# Altium schematic symbol library Schematic-Lib-ABahlmann-SMD.SchLib: 214 symbols (part 1 of 2)
Pins are listed as number, name and electrical type; pins without a type are passive.

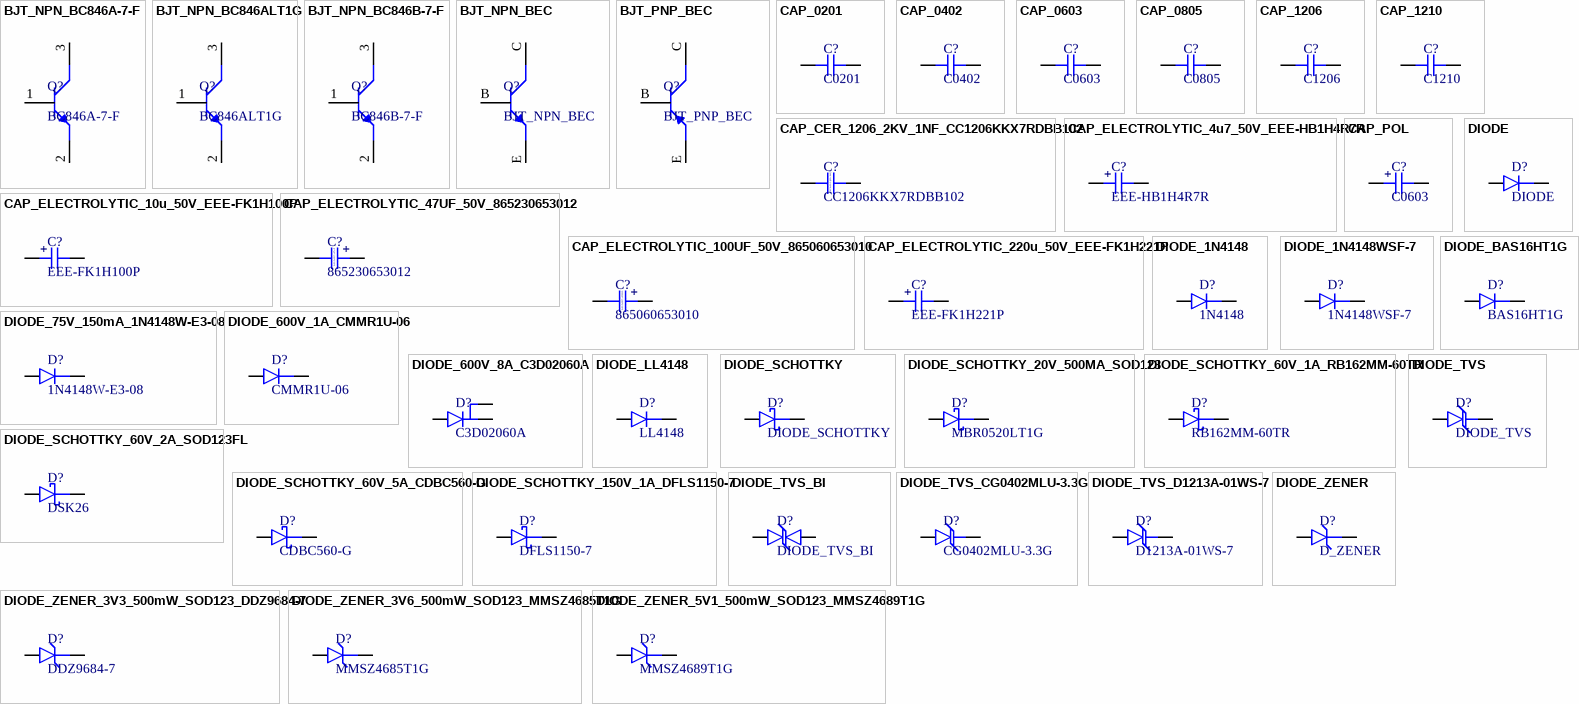
[diagram p0: symbols BJT_NPN_BC846A-7-F to DIODE_ZENER_5V1_500mW_SOD123_MMSZ4689T1G]

## BJT_NPN_BC846A-7-F
designator Q?, comment BC846A-7-F
Bipolar (BJT) Transistor NPN 65 V 100 mA 300MHz 300 mW Surface Mount SOT-23-3; ComponentLink1Description: Digikey; ComponentLink1URL: https://www.digikey.ca/en/products/detail/diodes-incorporated/BC846A-7-F/1934446; ComponentLink2Description: Datasheet; ComponentLink2URL: https://www.diodes.com/assets/Datasheets/BC846A-BC848C.pdf
pins: 1 B, 2 E, 3 C

## BJT_NPN_BC846ALT1G
designator Q?, comment BC846ALT1G
Bipolar (BJT) Transistor NPN 65 V 100 mA 100MHz 300 mW Surface Mount SOT-23-3 (TO-236); ComponentLink1Description: Digikey; ComponentLink1URL: https://www.digikey.ca/en/products/detail/onsemi/BC846ALT1G/918341; ComponentLink2Description: Datasheet; ComponentLink2URL: https://www.onsemi.com/pdf/datasheet/bc846alt1-d.pdf
footprint SOT-23_BC846ALT1G (Bipolar (BJT) Transistor NPN 65 V 100 mA 100MHz 300 mW Surface Mount SOT-23-3 (TO-236))
pins: 1 B, 2 E, 3 C

## BJT_NPN_BC846B-7-F
designator Q?, comment BC846B-7-F
Bipolar (BJT) Transistor NPN 65 V 100 mA 300MHz 300 mW Surface Mount SOT-23-3; ComponentLink1Description: Digikey; ComponentLink1URL: https://www.digikey.ca/en/products/detail/diodes-incorporated/BC846B-7-F/1099100; ComponentLink2Description: Datasheet; ComponentLink2URL: https://www.diodes.com/assets/Datasheets/ds11108.pdf
footprint SOT-23-3_BC846B-7-F (Bipolar (BJT) Transistor NPN 65 V 100 mA 300MHz 300 mW Surface Mount SOT-23-3)
pins: 1 B, 2 E, 3 C

## BJT_NPN_BEC
designator Q?
Transistor BJT NPN
pins: B, C, E

## BJT_PNP_BEC
designator Q?
Transistor BJT PNP
pins: B, C, E

## CAP_0201
designator C?, comment C0201
Capacitor SMD 0201; Manufacturer: *; Manufacturer Part Number: *; Distributor Link: *; LCSC: *; Rating: *
pins: 1, 2

## CAP_0402
designator C?, comment C0402
Capacitor SMD 0402; Manufacturer: *; Manufacturer Part Number: *; Distributor Link: *; LCSC: *; Rating: *
footprint CAP_0402_IPC
pins: 1, 2

## CAP_0603
designator C?, comment C0603
Capacitor SMD 0603; Manufacturer: *; Manufacturer Part Number: *; Distributor Link: *; LCSC: *; Rating: *
footprint CAP_0603
pins: 1, 2

## CAP_0805
designator C?, comment C0805
Capacitor SMD 0805; Manufacturer: *; Manufacturer Part Number: *; Distributor Link: *; LCSC: *; Rating: *
footprint CAP_0805
pins: 1, 2

## CAP_1206
designator C?, comment C1206
Capacitor SMD 1206; Manufacturer: *; Manufacturer Part Number: *; Distributor Link: *; LCSC: *; Rating: *
pins: 1, 2

## CAP_1210
designator C?, comment C1210
Capacitor SMD 1210; Manufacturer: *; Manufacturer Part Number: *; Distributor Link: *; LCSC: *; Rating: *
pins: 1, 2

## CAP_CER_1206_2KV_1NF_CC1206KKX7RDBB102
designator C?, comment CC1206KKX7RDBB102
1000 pF ±10% 2000V (2kV) Ceramic Capacitor X7R 1206 (3216 Metric); Manufacturer: Yageo; Manufacturer Part Number: CC1206KKX7RDBB102; Distributor Link: *; LCSC: *; Rating: *; ComponentLink1Description: Digikey; ComponentLink1URL: https://www.digikey.ca/en/products/detail/yageo/CC1206KKX7RDBB102/2833652; ComponentLink2Description: Datasheet; ComponentLink2URL: https://yageogroup.com/content/datasheet/asset/file/UPY-NP0X7R_HV_500V-TO-3KV
footprint MURATA_CAP_CER_1206
pins: 1, 2
text: 1206 1nF ±10% 2kV

## CAP_ELECTROLYTIC_4u7_50V_EEE-HB1H4R7R
designator C?, comment EEE-HB1H4R7R
4.7 µF 50 V Aluminum Electrolytic Capacitors Radial, Can - SMD 2000 Hrs @ 105°C; Manufacturer: *; Manufacturer Part Number: *; Distributor Link: *; LCSC: *; Rating: *; ComponentLink1Description: Digikey; ComponentLink1URL: https://www.digikey.ca/en/products/detail/panasonic-electronic-components/EEE-HB1H4R7R/817518?s=N4IgTCBcDaIKIIBICECMiAsAlA7FkAugL5A; ComponentLink2Description: Datasheet; ComponentLink2URL: https://industrial.panasonic.com/cdbs/www-data/pdf/RDE0000/ABA0000C1157.pdf
pins: 1, 2
text: +

## CAP_ELECTROLYTIC_10u_50V_EEE-FK1H100P
designator C?, comment EEE-FK1H100P
10 µF 50 V Aluminum Electrolytic Capacitors Radial, Can - SMD 2000 Hrs @ 105°C; Manufacturer: *; Manufacturer Part Number: *; Distributor Link: *; LCSC: *; Rating: *; ComponentLink1Description: Digikey; ComponentLink1URL: https://www.digikey.ca/en/products/detail/panasonic-electronic-components/EEE-FK1H100P/765976; ComponentLink2Description: Datasheet; ComponentLink2URL: https://industrial.panasonic.com/cdbs/www-data/pdf/RDE0000/ABA0000C1181.pdf
footprint CAP_ELECTROLYTIC_10u_50V_EEE-FK1H100P (10 µF 50 V Aluminum Electrolytic Capacitors Radial, Can - SMD 2000 Hrs @ 105°C)
pins: 1, 2
text: +

## CAP_ELECTROLYTIC_47UF_50V_865230653012
designator C?, comment 865230653012
47 µF 50 V Aluminum Electrolytic Capacitors Radial, Can - SMD 5000 Hrs @ 105°C; Manufacturer: Würth Elektronik; Manufacturer Part Number: 865230653012; Distributor Link: *; LCSC: *; Rating: *; ComponentLink1Description: Digikey; ComponentLink1URL: https://www.digikey.com/en/products/detail/w%C3%BCrth-elektronik/865230653012/5727872; ComponentLink2Description: Datasheet; ComponentLink2URL: https://www.we-online.com/components/products/datasheet/865230653012.pdf
footprint CAP_ELECTROLYTIC_47UF_50V_865230653012 (47 µF 50 V Aluminum Electrolytic Capacitors Radial, Can - SMD 5000 Hrs @ 105°C)
pins: 1, 2
text: 47uF ±20% 50V; +

## CAP_ELECTROLYTIC_100UF_50V_865060653010
designator C?, comment 865060653010
100 µF 50 V Aluminum Electrolytic Capacitors Radial, Can - SMD 5000 Hrs @ 105°C; Manufacturer: Würth Elektronik; Manufacturer Part Number: 865060653010; Distributor Link: *; LCSC: *; Rating: *; ComponentLink1Description: Digikey; ComponentLink1URL: https://www.digikey.ca/en/products/detail/w-rth-elektronik/865060653010/5728145?gclsrc=aw.ds&gad_source=1&gad_campaignid=17336435733&gbraid=0AAAAADrbLlhIcgpv2gvpz9yjGbse-w-JT&gclid=EAIaIQobChMIqdKd26m8lgMVPRmHAx1n_DMpEAQYByABEgKsbPD_BwE; ComponentLink2Description: Datasheet; ComponentLink2URL: https://www.we-online.com/components/products/datasheet/865060653010.pdf
footprint CAP_ELECTROLYTIC_100UF_50V_865060653010 (100 µF 50 V Aluminum Electrolytic Capacitors Radial, Can - SMD 5000 Hrs @ 105°C)
pins: 1, 2
text: 100uF ±20% 50V; +

## CAP_ELECTROLYTIC_220u_50V_EEE-FK1H221P
designator C?, comment EEE-FK1H221P
220 µF 50 V Aluminum Electrolytic Capacitors Radial, Can - SMD 2000 Hrs @ 105°C; Manufacturer: *; Manufacturer Part Number: *; Distributor Link: *; LCSC: *; Rating: *; ComponentLink1Description: Digikey; ComponentLink1URL: https://www.digikey.com/en/products/detail/panasonic-electronic-components/EEE-FK1H221P/765981; ComponentLink2Description: Datasheet; ComponentLink2URL: https://industrial.panasonic.com/cdbs/www-data/pdf/RDF0000/RDF0000C1264.pdf
footprint CAP_ELECTROLYTIC_220u_50V_EEE-FK1H221P (220 µF 50 V Aluminum Electrolytic Capacitors Radial, Can - SMD 2000 Hrs @ 105°C)
pins: 1, 2
text: +

## CAP_POL
designator C?, comment C0603
Polarized Capacitor; Manufacturer: *; Manufacturer Part Number: *; Distributor Link: *; LCSC: *; Rating: *
pins: 1, 2
text: +

## DIODE
designator D?
Diode SMD
pins: A, K

## DIODE_1N4148
designator D?, comment 1N4148
Diode 100 V 200mA Through Hole DO-35; ComponentLink1Description: Digikey; ComponentLink1URL: https://www.digikey.ca/en/products/detail/onsemi/1N4148/458603; ComponentLink2Description: Datasheet; ComponentLink2URL: https://www.onsemi.com/download/data-sheet/pdf/1n914-d.pdf
footprint DO-35_1N4148 (Diode 100 V 200mA Through Hole DO-35)
pins: A, K

## DIODE_1N4148WSF-7
designator D?, comment 1N4148WSF-7
Diode 100 V 250mA Surface Mount SOD-323F; ComponentLink1Description: Digikey; ComponentLink1URL: https://www.digikey.ca/en/products/detail/diodes-incorporated/1N4148WSF-7/4570628; ComponentLink2Description: Datasheet; ComponentLink2URL: https://www.diodes.com/assets/Datasheets/1N4148WSF.pdf
pins: A, K

## DIODE_75V_150mA_1N4148W-E3-08
designator D?, comment 1N4148W-E3-08
Diode 75 V 150mA Surface Mount SOD-123; ComponentLink1Description: Digikey; ComponentLink1URL: https://www.digikey.ca/en/products/detail/vishay-general-semiconductor-diodes-division/1N4148W-E3-08/3104162; ComponentLink2Description: Datasheet; ComponentLink2URL: https://www.vishay.com/docs/86356/1n4148w.pdf
footprint DIODE_75V_150mA_1N4148W-E3-08 (Diode 75 V 150mA Surface Mount SOD-123)
footprint DIODE_75V_150mA_1N4148W-E3-08_DNP (Diode 75 V 150mA Surface Mount SOD-123)
pins: A, K

## DIODE_600V_1A_CMMR1U-06
designator D?, comment CMMR1U-06
Diode 600 V 1A Surface Mount SOD-123F; ComponentLink1Description: Digikey; ComponentLink1URL: https://www.digikey.ca/en/products/detail/central-semiconductor-corp/CMMR1U-06-TR-PBFREE/4807502; ComponentLink2Description: Datasheet; ComponentLink2URL: https://my.centralsemi.com/datasheets/CMMR1U_SERIES.PDF
footprint DIODE_600V_1A_CMMR1U-06 (Diode 600 V 1A Surface Mount SOD-123F)
pins: 1, 2

## DIODE_600V_8A_C3D02060A
designator D?, comment C3D02060A
Diode 600 V 8A Through Hole TO-220-2; ComponentLink1Description: Digikey; ComponentLink1URL: https://www.digikey.ca/en/products/detail/wolfspeed-inc/C3D02060A/2080270; ComponentLink2Description: Datasheet; ComponentLink2URL: https://assets.wolfspeed.com/uploads/2023/05/Wolfspeed_C3D02060A_data_sheet.pdf
footprint DIODE_600V_8A_C3D02060A (Diode 600 V 8A Through Hole TO-220-2)
pins: 1, 2, 3

## DIODE_BAS16HT1G
designator D?, comment BAS16HT1G
Diode 100 V 200mA Surface Mount SOD-323; ComponentLink1Description: Digikey; ComponentLink1URL: https://www.digikey.ca/en/products/detail/onsemi/BAS16HT1G/918301; ComponentLink2Description: Datasheet; ComponentLink2URL: https://www.onsemi.com/pub/Collateral/BAS16HT1-D.PDF
pins: A, K

## DIODE_LL4148
designator D?, comment LL4148
Diode 100 V 200mA Surface Mount SOD-80; ComponentLink1Description: Digikey; ComponentLink1URL: https://www.digikey.ca/en/products/detail/onsemi/LL4148/1923046; ComponentLink2Description: Datasheet; ComponentLink2URL: https://www.onsemi.com/pub/Collateral/LL4148-D.PDF
pins: A, K

## DIODE_SCHOTTKY
designator D?
Diode Schottky SMD
pins: A, K

## DIODE_SCHOTTKY_20V_500MA_SOD123
designator D?, comment MBR0520LT1G
Diode 20 V 500mA Surface Mount SOD-123; ComponentLink1Description: Digikey; ComponentLink1URL: https://www.digikey.ca/en/products/detail/onsemi/MBR0520LT1G/918574; ComponentLink2Description: Datasheet; ComponentLink2URL: https://www.onsemi.com/pdf/datasheet/mbr0520lt1-d.pdf; ComponentLink3Description: LCSC; ComponentLink3URL: https://www.lcsc.com/product-detail/C23848.html?s_z=n_MBR0520LT1G
footprint SOD_123
pins: A, K

## DIODE_SCHOTTKY_60V_1A_RB162MM-60TR
designator D?, comment RB162MM-60TR
Diode 60 V 1A Surface Mount PMDU; ComponentLink1Description: Digikey; ComponentLink1URL: https://www.digikey.ca/en/products/detail/rohm-semiconductor/RB162MM-60TR/5001883; ComponentLink2Description: Datasheet; ComponentLink2URL: https://www.rohm.com/datasheet?p=RB162MM-60&dist=Digi-Key&media=referral&source=digi-key.com&campaign=Digi-Key
footprint DIODE_SCHOTTKY_60V_1A_RB162MM-60TR (Diode 60 V 1A Surface Mount PMDU)
pins: A, K

## DIODE_SCHOTTKY_60V_2A_SOD123FL
designator D?, comment DSK26
Diode 60 V 2A Surface Mount SOD-123FL; ComponentLink1Description: Digikey; ComponentLink1URL: https://www.digikey.com/en/products/detail/nextgen-components/DSK26/15905844; ComponentLink2Description: Datasheet (Digikey); ComponentLink2URL: https://mm.digikey.com/Volume0/opasdata/d220001/medias/docus/6537/3372_DSK26W0000S060.pdf; ComponentLink3Description: LCSC; ComponentLink3URL: https://jlcpcb.com/partdetail/MDD_Microdiode_Semiconductor-DSK26/C50553; ComponentLink4Description: Datasheet (LCSC); ComponentLink4URL: https://jlcpcb.com/api/file/downloadByFileSystemAccessId/8586178991341883392
footprint SOD_123FL
pins: A, K

## DIODE_SCHOTTKY_60V_5A_CDBC560-G
designator D?, comment CDBC560-G
Diode 60 V 5A Surface Mount DO-214AB (SMC); ComponentLink1Description: Digikey; ComponentLink1URL: https://www.digikey.ca/en/products/detail/comchip-technology/CDBC560-G/1558970; ComponentLink2Description: Datasheet; ComponentLink2URL: https://mm.digikey.com/Volume0/opasdata/d220001/medias/docus/2437/CDBC520-G%20Thru%20CDBC5100-G.pdf
footprint DO-214AB_CDBC560-G (Diode 60 V 5A Surface Mount DO-214AB (SMC))
pins: A, K

## DIODE_SCHOTTKY_150V_1A_DFLS1150-7
designator D?, comment DFLS1150-7
Diode 150 V 1A Surface Mount PowerDI™ 123; ComponentLink1Description: Digkey; ComponentLink1URL: https://www.digikey.ca/en/products/detail/diodes-incorporated/DFLS1150-7/765613; ComponentLink2Description: Datasheet; ComponentLink2URL: https://www.diodes.com/assets/Datasheets/DFLS1150.pdf
footprint DIODE_SCHOTTKY_150V_1A_DFLS1150-7 (Diode 150 V 1A Surface Mount PowerDI™ 123)
pins: A, K

## DIODE_TVS
designator D?
Diode TVS SMD
pins: A, K

## DIODE_TVS_BI
designator D?
Diode TVS Bidirectional SMD
pins: A, K

## DIODE_TVS_CG0402MLU-3.3G
designator D?, comment CG0402MLU-3.3G
Varistor 1 Circuit Surface Mount, MLCV 0402 (1005 Metric); ComponentLink1Description: Digikey; ComponentLink1URL: https://www.digikey.sk/en/products/detail/bourns-inc/CG0402MLU-3-3G/1788369; ComponentLink2Description: Datasheet; ComponentLink2URL: https://www.bourns.com/docs/Product-Datasheets/MLU.pdf
footprint DIODE_TVS_CG0402MLU-3.3G (Varistor 1 Circuit Surface Mount, MLCV 0402 (1005 Metric))
pins: A, K

## DIODE_TVS_D1213A-01WS-7
designator D?, comment D1213A-01WS-7
10V (Typ) Clamp 5A (8/20µs) Ipp Tvs Diode Surface Mount SOD-323; ComponentLink1Description: Digikey; ComponentLink1URL: https://www.digikey.ca/en/products/detail/diodes-incorporated/D1213A-01WS-7/3340446; ComponentLink2Description: Datasheet; ComponentLink2URL: https://www.diodes.com/assets/Datasheets/D1213A-01WS.pdf
footprint SOD_323_D1213A-01WS-7 (10V (Typ) Clamp 5A (8/20µs) Ipp Tvs Diode Surface Mount SOD-323)
pins: A, K

## DIODE_ZENER
designator D?, comment D_ZENER
Diode Zener SMD
pins: A, K

## DIODE_ZENER_3V3_500mW_SOD123_DDZ9684-7
designator D?, comment DDZ9684-7
Zener Diode 3.3 V 500 mW ±5% Surface Mount SOD-123; ComponentLink1Description: Digikey; ComponentLink1URL: https://www.digikey.ca/en/products/detail/diodes-incorporated/DDZ9684-7/1934818; ComponentLink2Description: Datasheet; ComponentLink2URL: https://www.diodes.com/assets/Datasheets/ds30410.pdf
pins: A, K

## DIODE_ZENER_3V6_500mW_SOD123_MMSZ4685T1G
designator D?, comment MMSZ4685T1G
Zener Diode 3.6 V 500 mW ±5% Surface Mount SOD-123; ComponentLink1Description: Digikey; ComponentLink1URL: https://www.digikey.ca/en/products/detail/onsemi/MMSZ4685T1G/919719; ComponentLink2Description: Datasheet (Digikey); ComponentLink2URL: https://www.onsemi.com/pdf/datasheet/mmsz4678t1-d.pdf; ComponentLink3Description: LCSC; ComponentLink3URL: https://www.lcsc.com/product-detail/C66886.html?s_z=n_MMSZ4685T1G; ComponentLink4Description: Datasheet (LCSC); ComponentLink4URL: https://www.lcsc.com/datasheet/C66886.pdf
footprint SOD_123
pins: A, K

## DIODE_ZENER_5V1_500mW_SOD123_MMSZ4689T1G
designator D?, comment MMSZ4689T1G
Zener Diode 5.1 V 500 mW ±5% Surface Mount SOD-123; ComponentLink1Description: Digikey; ComponentLink1URL: https://www.digikey.ca/en/products/detail/onsemi/MMSZ4689T1G/919723; ComponentLink2Description: Datasheet (Digikey); ComponentLink2URL: https://www.onsemi.com/pdf/datasheet/mmsz4678t1-d.pdf; ComponentLink3Description: LCSC; ComponentLink3URL: https://jlcpcb.com/partdetail/onsemi-MMSZ4689T1G/C236187; ComponentLink4Description: Datasheet (LCSC); ComponentLink4URL: https://jlcpcb.com/api/file/downloadByFileSystemAccessId/8588884732348547072
footprint SOD_123
pins: A, K

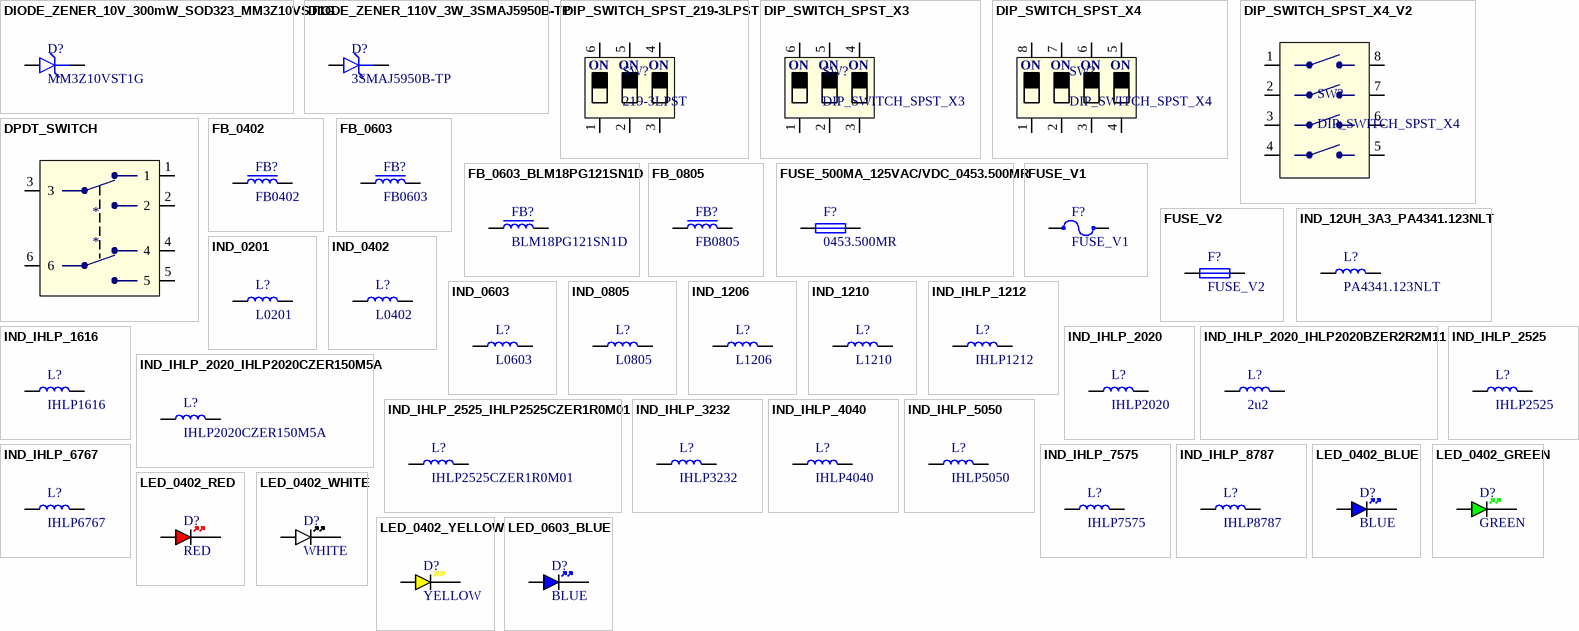
[diagram p1: symbols DIODE_ZENER_10V_300mW_SOD323_MM3Z10VST1G to LED_0603_BLUE]

## DIODE_ZENER_10V_300mW_SOD323_MM3Z10VST1G
designator D?, comment MM3Z10VST1G
Zener Diode 10 V 300 mW ±2% Surface Mount SOD-323; ComponentLink1Description: Digikey; ComponentLink1URL: https://www.digikey.ca/en/products/detail/onsemi/MM3Z10VST1G/687052; ComponentLink2Description: Datasheet; ComponentLink2URL: https://www.onsemi.com/pdf/datasheet/mm3z2v4st1-d.pdf
footprint DIODE_ZENER_10V_300mW_SOD323_MM3Z10VST1G (Zener Diode 10 V 300 mW ±2% Surface Mount SOD-323)
pins: A, K

## DIODE_ZENER_110V_3W_3SMAJ5950B-TP
designator D?, comment 3SMAJ5950B-TP
Zener Diode 110 V 3 W ±5% Surface Mount DO-214AC (SMA); ComponentLink1Description: Digikey; ComponentLink1URL: https://www.digikey.com/en/products/detail/mcc-micro-commercial-components/3SMAJ5950B-TP/3165245; ComponentLink2Description: Datasheet; ComponentLink2URL: https://www.mccsemi.com/pdf/Products/3SMAJ5918B-3SMAJ5956B(SMA).pdf
footprint DIODE_ZENER_110V_3W_3SMAJ5950B-TP (Zener Diode 110 V 3 W ±5% Surface Mount DO-214AC (SMA))
pins: A, K

## DIP_SWITCH_SPST_219-3LPST
designator SW?, comment 219-3LPST
Dip Switch SPST 3 Position Surface Mount Slide (Standard) Actuator 100mA 20VDC; ComponentLink1Description: Digikey; ComponentLink1URL: https://www.digikey.ca/en/products/detail/cts-electrocomponents/219-3LPST/223166; ComponentLink2Description: Datasheet; ComponentLink2URL: https://www.ctscorp.com/Files/DataSheets/Switches/DIP-Switches/CTS-Switches-DIP-219-Series-Datasheet.pdf
pins: 1, 2, 3, 4, 5, 6
text: ON

## DIP_SWITCH_SPST_X3
designator SW?
Dip switches SPST x3
pins: 1, 2, 3, 4, 5, 6
text: ON

## DIP_SWITCH_SPST_X4
designator SW?
Dip switches SPST x4
pins: 1, 2, 3, 4, 5, 6, 7, 8
text: ON

## DIP_SWITCH_SPST_X4_V2
designator SW?, comment DIP_SWITCH_SPST_X4
Dip switches SPST x4
pins: 1, 2, 3, 4, 5, 6, 7, 8

## DPDT_SWITCH
designator *
pins: 1, 2, 3, 4, 5, 6

## FB_0402
designator FB?, comment FB0402
Ferrite Bead SMD 0402
footprint IND_0402
pins: 1, 2

## FB_0603
designator FB?, comment FB0603
Ferrite Bead SMD 0603
footprint IND_0603
pins: 1, 2

## FB_0603_BLM18PG121SN1D
designator FB?, comment BLM18PG121SN1D
120 Ohms @ 100 MHz 1 Power Line Ferrite Bead 0603 (1608 Metric) 2A 50mOhm; ComponentLink1Description: Digikey; ComponentLink1URL: https://www.digikey.ca/en/products/detail/murata-electronics/BLM18PG121SN1D/584248; ComponentLink2Description: Datasheet; ComponentLink2URL: https://pim.murata.com/asset/pim4/ferriteBeadInductortypefilter/ENFA0003_PDF_FERRITEBEADINDUCTORTYPEFILTER?lastModifiedDatetime=20250707190934
footprint FB_0603_BLM18PG121SN1D (120 Ohms @ 100 MHz 1 Power Line Ferrite Bead 0603 (1608 Metric) 2A 50mOhm)
pins: 1, 2

## FB_0805
designator FB?, comment FB0805
Ferrite Bead SMD 0805
footprint IND_0805
pins: 1, 2

## FUSE_500MA_125VAC/VDC_0453.500MR
designator F?, comment 0453.500MR
500 mA 125 V 125 V Fuse Board Mount (Cartridge Style Excluded) Surface Mount 2-SMD, Square End Block; ComponentLink1Description: Digikey; ComponentLink1URL: https://www.digikey.ca/en/products/detail/littelfuse-inc/0453-500MR/552279; ComponentLink2Description: Datasheet; ComponentLink2URL: https://www.littelfuse.com/assetdocs/littelfuse-fuse-451-453-datasheet?assetguid=533cd5cc-956c-4243-867f-6ab5a62f6ba1
footprint FUSE_500MA_125VAC/VDC_0453.500MR (500 mA 125 V 125 V Fuse Board Mount (Cartridge Style Excluded) Surface Mount 2-SMD, Square End Block)
pins: 1, 2

## FUSE_V1
designator F?
Fuse
pins: 1, 2

## FUSE_V2
designator F?
Fuse
pins: 1, 2

## IND_12UH_3A3_PA4341.123NLT
designator L?, comment PA4341.123NLT
12 µH Shielded Molded Inductor 3.3 A 93mOhm Max Nonstandard; Manufacturer: Pulse Electronics; Manufacturer Part Number: PA4341.123NLT; Distributor Link: *; LCSC: *; Rating: *
footprint IND_12UH_3A3_PA4341.123NLT (12 µH Shielded Molded Inductor 3.3 A 93mOhm Max Nonstandard)
pins: 1, 2

## IND_0201
designator L?, comment L0201
Inductor SMD 0201; Manufacturer: *; Manufacturer Part Number: *; Distributor Link: *; LCSC: *; Rating: *
pins: 1, 2

## IND_0402
designator L?, comment L0402
Inductor SMD 0402; Manufacturer: *; Manufacturer Part Number: *; Distributor Link: *; LCSC: *; Rating: *
footprint IND_0402
pins: 1, 2

## IND_0603
designator L?, comment L0603
Inductor SMD 0603; Manufacturer: *; Manufacturer Part Number: *; Distributor Link: *; LCSC: *; Rating: *
footprint IND_0603
pins: 1, 2

## IND_0805
designator L?, comment L0805
Inductor SMD 0805; Manufacturer: *; Manufacturer Part Number: *; Distributor Link: *; LCSC: *; Rating: *
footprint IND_0805
pins: 1, 2

## IND_1206
designator L?, comment L1206
Inductor SMD 1206; Manufacturer: *; Manufacturer Part Number: *; Distributor Link: *; LCSC: *; Rating: *
footprint IND_1206
pins: 1, 2

## IND_1210
designator L?, comment L1210
Inductor SMD 1210; Manufacturer: *; Manufacturer Part Number: *; Distributor Link: *; LCSC: *; Rating: *
footprint IND_1210
pins: 1, 2

## IND_IHLP_1212
designator L?, comment IHLP1212
Inductor SMD IHLP 1212; Manufacturer: *; Manufacturer Part Number: *; Distributor Link: *; LCSC: *; Rating: *
pins: 1, 2

## IND_IHLP_1616
designator L?, comment IHLP1616
Inductor SMD IHLP 1616; Manufacturer: *; Manufacturer Part Number: *; Distributor Link: *; LCSC: *; Rating: *
pins: 1, 2

## IND_IHLP_2020
designator L?, comment IHLP2020
Inductor SMD IHLP 2020; Manufacturer: *; Manufacturer Part Number: *; Distributor Link: *; LCSC: *; Rating: *
pins: 1, 2

## IND_IHLP_2020_IHLP2020BZER2R2M11
designator L?, comment 2u2
2.2 µH Shielded Molded Inductor 5 A 37.7mOhm Max Nonstandard; ComponentLink1Description: Digikey; ComponentLink1URL: https://www.digikey.com/en/products/detail/vishay-dale/IHLP2020BZER2R2M11/2025060; ComponentLink2Description: Datasheet; ComponentLink2URL: https://www.vishay.com/docs/34261/ihlp-2020bz-11.pdf
footprint IND_IHLP_2020_IHLP2020BZER2R2M11
pins: 1, 2

## IND_IHLP_2020_IHLP2020CZER150M5A
designator L?, comment IHLP2020CZER150M5A
15 µH Shielded Molded Inductor 2.4 A 208mOhm Max Nonstandard; ComponentLink1Description: Digikey; ComponentLink1URL: https://www.digikey.ca/en/products/detail/vishay-dale/IHLP2020CZER150M5A/13985233?s=N4IgTCBcDaIJIAkAyAFMAGDBhAWgUQCUBGAVnQFkSBBEAXQF8g; ComponentLink2Description: Datasheet; ComponentLink2URL: https://www.vishay.com/docs/34384/ihlp-2020cz-5a.pdf
footprint IND_IHLP_2020
pins: 1, 2

## IND_IHLP_2525
designator L?, comment IHLP2525
Inductor SMD IHLP 2525; Manufacturer: *; Manufacturer Part Number: *; Distributor Link: *; LCSC: *; Rating: *
pins: 1, 2

## IND_IHLP_2525_IHLP2525CZER1R0M01
designator L?, comment IHLP2525CZER1R0M01
1 µH Shielded Molded Inductor 11 A 10mOhm Max Nonstandard; ComponentLink1Description: Digikey; ComponentLink1URL: https://www.digikey.ca/en/products/detail/vishay-dale/IHLP2525CZER1R0M01/1220671; ComponentLink2Description: Datasheet; ComponentLink2URL: https://www.vishay.com/docs/34104/ihlp-2525cz-01.pdf
footprint IND_IHLP_2525
pins: 1, 2

## IND_IHLP_3232
designator L?, comment IHLP3232
Inductor SMD IHLP 3232; Manufacturer: *; Manufacturer Part Number: *; Distributor Link: *; LCSC: *; Rating: *
pins: 1, 2

## IND_IHLP_4040
designator L?, comment IHLP4040
Inductor SMD IHLP 4040; Manufacturer: *; Manufacturer Part Number: *; Distributor Link: *; LCSC: *; Rating: *
pins: 1, 2

## IND_IHLP_5050
designator L?, comment IHLP5050
Inductor SMD IHLP 5050; Manufacturer: *; Manufacturer Part Number: *; Distributor Link: *; LCSC: *; Rating: *
pins: 1, 2

## IND_IHLP_6767
designator L?, comment IHLP6767
Inductor SMD IHLP 6767; Manufacturer: *; Manufacturer Part Number: *; Distributor Link: *; LCSC: *; Rating: *
pins: 1, 2

## IND_IHLP_7575
designator L?, comment IHLP7575
Inductor SMD IHLP 7575; Manufacturer: *; Manufacturer Part Number: *; Distributor Link: *; LCSC: *; Rating: *
pins: 1, 2

## IND_IHLP_8787
designator L?, comment IHLP8787
Inductor SMD IHLP 8787; Manufacturer: *; Manufacturer Part Number: *; Distributor Link: *; LCSC: *; Rating: *
pins: 1, 2

## LED_0402_BLUE
designator D?, comment BLUE
LED 0402 BLUE SMD
pins: A, K

## LED_0402_GREEN
designator D?, comment GREEN
LED 0402 GREEN SMD
pins: A, K

## LED_0402_RED
designator D?, comment RED
LED 0402 RED SMD
pins: A, K

## LED_0402_WHITE
designator D?, comment WHITE
LED 0402 WHITE SMD
pins: A, K

## LED_0402_YELLOW
designator D?, comment YELLOW
LED 0402 YELLOW SMD
pins: A, K

## LED_0603_BLUE
designator D?, comment BLUE
LED 0603 BLUE SMD
footprint LED_0603_BLUE
footprint LED_0603_IPC_BLUE
pins: A, K

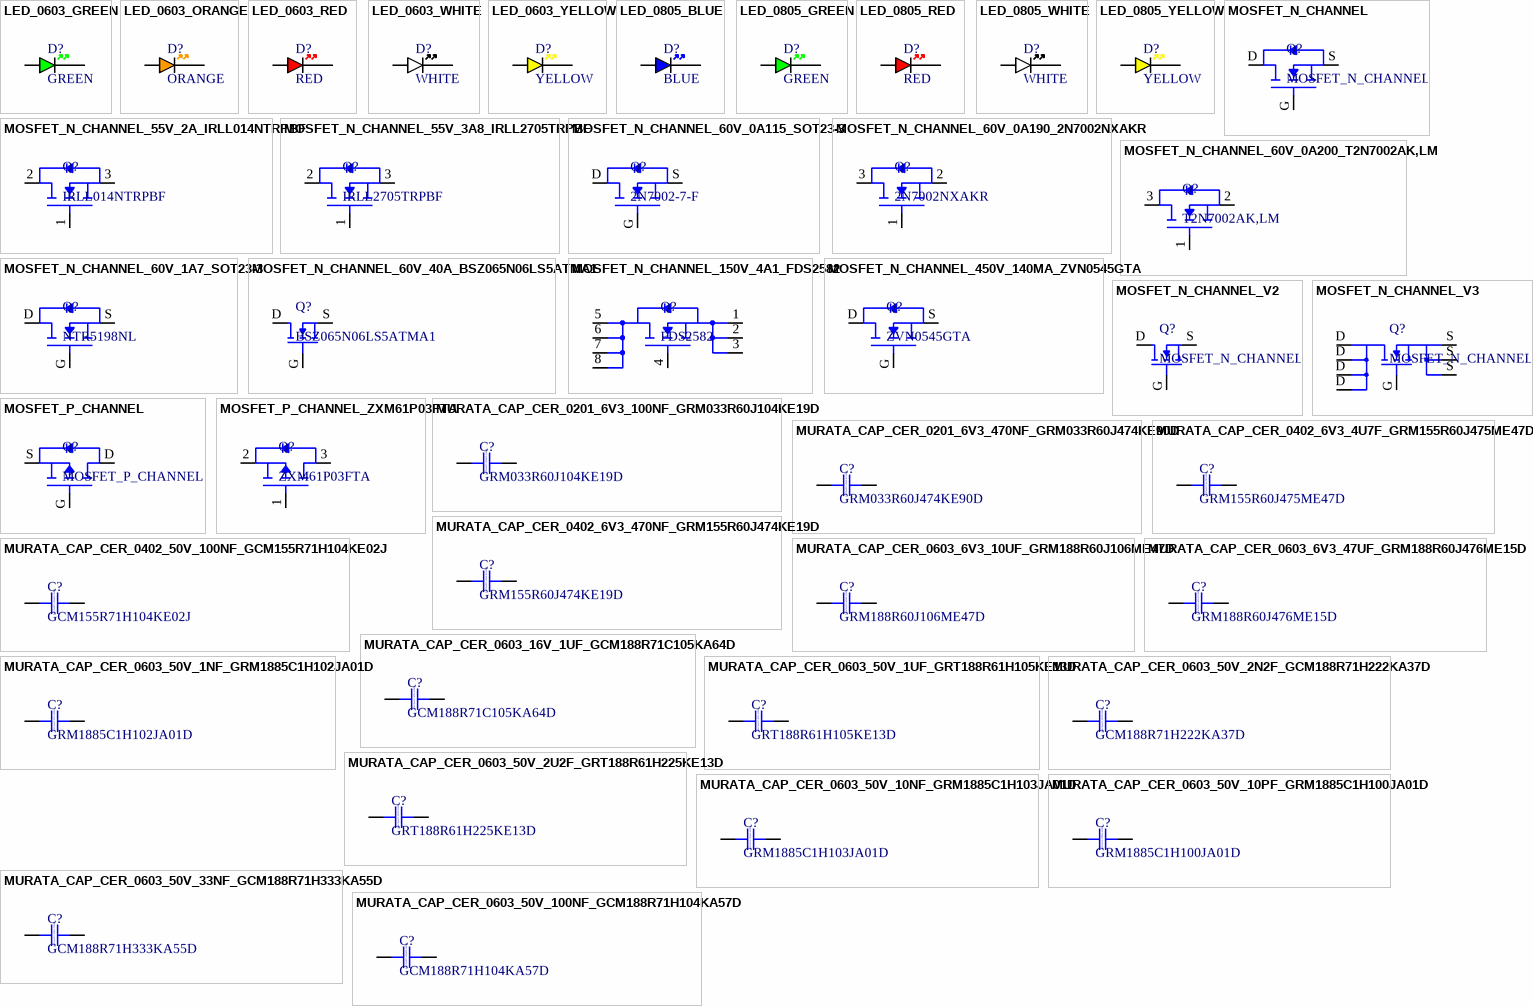
[diagram p2: symbols LED_0603_GREEN to MURATA_CAP_CER_0603_50V_100NF_GCM188R71H104KA57D]

## LED_0603_GREEN
designator D?, comment GREEN
LED 0603 GREEN SMD
footprint LED_0603_GREEN
footprint LED_0603_IPC_GREEN
pins: A, K

## LED_0603_ORANGE
designator D?, comment ORANGE
LED 0603 ORANGE SMD
footprint LED_0603_ORANGE
footprint LED_0603_IPC_ORANGE
pins: A, K

## LED_0603_RED
designator D?, comment RED
LED 0603 RED SMD
footprint LED_0603_RED
footprint LED_0603_IPC_RED
pins: A, K

## LED_0603_WHITE
designator D?, comment WHITE
LED 0603 WHITE SMD
footprint LED_0603_WHITE
footprint LED_0603_IPC_WHITE
pins: A, K

## LED_0603_YELLOW
designator D?, comment YELLOW
LED 0603 YELLOW SMD
footprint LED_0603_YELLOW
footprint LED_0603_IPC_YELLOW
pins: A, K

## LED_0805_BLUE
designator D?, comment BLUE
LED 0805 BLUE SMD
pins: A, K

## LED_0805_GREEN
designator D?, comment GREEN
LED 0805 GREEN SMD
pins: A, K

## LED_0805_RED
designator D?, comment RED
LED 0805 RED SMD
pins: A, K

## LED_0805_WHITE
designator D?, comment WHITE
LED 0805 WHITE SMD
pins: A, K

## LED_0805_YELLOW
designator D?, comment YELLOW
LED 0805 YELLOW SMD
pins: A, K

## MOSFET_N_CHANNEL
designator Q?
MOSFET N-Channel
pins: D, G, S

## MOSFET_N_CHANNEL_55V_2A_IRLL014NTRPBF
designator Q?, comment IRLL014NTRPBF
N-Channel 55 V 2A (Ta) 1W (Ta) Surface Mount SOT-223; ComponentLink1Description: Digikey; ComponentLink1URL: https://www.digikey.com/en/products/detail/infineon-technologies/IRLL014NTRPBF/811418?s=N4IgTCBcDaIJICUAySAMBGALAOQCoIAUAhAMRAF0BfIA; ComponentLink2Description: Datasheet; ComponentLink2URL: https://www.infineon.com/assets/row/public/documents/24/49/infineon-irll014n-datasheet-en.pdf?fileId=5546d462533600a401535664368425cf
footprint SOT-223_IRLL014NTRPBF (N-Channel 55 V 2A (Ta) 1W (Ta) Surface Mount SOT-223)
pins: 1 G, 2 D, 3 S

## MOSFET_N_CHANNEL_55V_3A8_IRLL2705TRPBF
designator Q?, comment IRLL2705TRPBF
N-Channel 55 V 3.8A (Ta) 1W (Ta) Surface Mount SOT-223; ComponentLink1Description: Digikey; ComponentLink1URL: https://www.digikey.ca/en/products/detail/infineon-technologies/IRLL2705TRPBF/811426; ComponentLink2Description: Datasheet; ComponentLink2URL: https://www.infineon.com/assets/row/public/documents/24/49/infineon-irll2705-datasheet-en.pdf?fileId=5546d462533600a401535664653425db
pins: 1 G, 2 D, 3 S

## MOSFET_N_CHANNEL_60V_0A115_SOT23-3
designator Q?, comment 2N7002-7-F
N-Channel 60 V 115mA (Ta) 370mW (Ta) Surface Mount SOT-23-3; ComponentLink1Description: Digikey; ComponentLink1URL: https://www.digikey.ca/en/products/detail/diodes-incorporated/2N7002-7-F/717681; ComponentLink2Description: Datasheet; ComponentLink2URL: https://www.diodes.com/assets/Datasheets/ds11303.pdf; ComponentLink3Description: LCSC; ComponentLink3URL: https://www.lcsc.com/product-detail/C85049.html?s_z=n_2N7002-7-F
footprint SOT-23-3_NCH_FET
pins: D, G, S

## MOSFET_N_CHANNEL_60V_0A190_2N7002NXAKR
designator Q?, comment 2N7002NXAKR
N-Channel 60 V 200mA (Ta) 320mW (Ta) Surface Mount SOT-23-3; ComponentLink1Description: Digikey; ComponentLink1URL: https://www.digikey.ca/en/products/detail/nexperia-usa-inc/2N7002NXAKR/10416554; ComponentLink2Description: Datasheet; ComponentLink2URL: https://assets.nexperia.com/documents/data-sheet/2N7002NXAK.pdf
pins: 1 G, 2 S, 3 D

## MOSFET_N_CHANNEL_60V_0A200_T2N7002AK,LM
designator Q?, comment T2N7002AK,LM
N-Channel 60 V 200mA (Ta) 320mW (Ta) Surface Mount SOT-23-3; ComponentLink1Description: Digikey; ComponentLink1URL: https://www.digikey.ca/en/products/detail/toshiba-semiconductor-and-storage/T2N7002AK-LM/5298028; ComponentLink2Description: Datasheet; ComponentLink2URL: https://toshiba.semicon-storage.com/info/T2N7002AK_datasheet_en_20150401.pdf?did=29712&prodName=T2N7002AK
pins: 1 G, 2 S, 3 D

## MOSFET_N_CHANNEL_60V_1A7_SOT23-3
designator Q?, comment NTR5198NL
N-Channel 60 V 1.7A (Ta) 900mW (Ta) Surface Mount SOT-23-3 (TO-236); ComponentLink1Description: Digikey; ComponentLink1URL: https://www.digikey.ca/en/products/detail/onsemi/NTR5198NLT1G/4499737; ComponentLink2Description: Datasheet; ComponentLink2URL: https://www.onsemi.com/pdf/datasheet/ntr5198nl-d.pdf; ComponentLink3Description: LCSC; ComponentLink3URL: https://www.lcsc.com/product-detail/C163243.html?s_z=n_NTR5198NL
footprint SOT-23-3_NCH_FET
pins: D, G, S

## MOSFET_N_CHANNEL_60V_40A_BSZ065N06LS5ATMA1
designator Q?, comment BSZ065N06LS5ATMA1
N-Channel 60 V 40A (Tc) 46W (Tc) Surface Mount PG-TSDSON-8-FL; ComponentLink1Description: Digikey; ComponentLink1URL: https://www.digikey.ca/en/products/detail/infineon-technologies/BSZ065N06LS5ATMA1/6599581; ComponentLink2Description: Datasheet; ComponentLink2URL: https://www.infineon.com/dgdl/Infineon-BSZ065N06LS5-DS-v02_02-EN.pdf?fileId=5546d4625696ed760156e55f60164817
footprint MOSFET_N_CHANNEL_60V_40A_BSZ065N06LS5ATMA1 (N-Channel 60 V 40A (Tc) 46W (Tc) Surface Mount PG-TSDSON-8-FL)
pins: D, G, S

## MOSFET_N_CHANNEL_150V_4A1_FDS2582
designator Q?, comment FDS2582
N-Channel 150 V 4.1A (Ta) 2.5W (Ta) Surface Mount 8-SOIC; ComponentLink1Description: Digikey; ComponentLink1URL: https://www.digikey.ca/en/products/detail/onsemi/FDS2582/977546; ComponentLink2Description: Datasheet; ComponentLink2URL: https://www.onsemi.com/pdf/datasheet/fds2582-d.pdf
footprint MOSFET_N_CHANNEL_150V_4A1_FDS2582 (N-Channel 150 V 4.1A (Ta) 2.5W (Ta) Surface Mount 8-SOIC)
pins: 1 S, 2 S, 3 S, 4 G, 5 D, 6 D, 7 D, 8 D

## MOSFET_N_CHANNEL_450V_140MA_ZVN0545GTA
designator Q?, comment ZVN0545GTA
N-Channel 450 V 140mA (Ta) 2W (Ta) Surface Mount SOT-223-3; ComponentLink1Description: Digikey; ComponentLink1URL: https://www.digikey.ca/en/products/detail/diodes-incorporated/ZVN0545GTA/152474; ComponentLink2Description: Datasheet; ComponentLink2URL: https://www.diodes.com/assets/Datasheets/ZVN0545G.pdf
pins: D, G, S

## MOSFET_N_CHANNEL_V2
designator Q?, comment MOSFET_N_CHANNEL
MOSFET N-Channel
pins: D, G, S

## MOSFET_N_CHANNEL_V3
designator Q?, comment MOSFET_N_CHANNEL
MOSFET N-Channel
pins: D, D, D, D, G, S, S, S

## MOSFET_P_CHANNEL
designator Q?
MOSFET P-Channel
pins: D, G, S

## MOSFET_P_CHANNEL_ZXM61P03FTA
designator Q?, comment ZXM61P03FTA
P-Channel 30 V 1.1A (Ta) 625mW (Ta) Surface Mount SOT-23-3; ComponentLink1Description: Digikey; ComponentLink1URL: https://www.digikey.ca/en/products/detail/diodes-incorporated/ZXM61P03FTA/272412; ComponentLink2Description: Datasheet; ComponentLink2URL: https://www.diodes.com/assets/Datasheets/ZXM61P03F.pdf
footprint SOT-23-3_ZXM61P03FTA (P-Channel 30 V 1.1A (Ta) 625mW (Ta) Surface Mount SOT-23-3)
pins: 1 G, 2 S, 3 D

## MURATA_CAP_CER_0201_6V3_100NF_GRM033R60J104KE19D
designator C?, comment GRM033R60J104KE19D
0.1 µF ±10% 6.3V Ceramic Capacitor X5R 0201 (0603 Metric); Manufacturer: Murata Electronics; Manufacturer Part Number: GRM033R60J104KE19D; Distributor Link: https://www.digikey.com/en/products/detail/murata-electronics/GRM033R60J104KE19D/702433; LCSC: *; Rating: *; ComponentLink1Description: Digikey; ComponentLink1URL: https://www.digikey.com/en/products/detail/murata-electronics/GRM033R60J104KE19D/702433; ComponentLink2Description: Datasheet; ComponentLink2URL: https://search.murata.co.jp/Ceramy/image/img/A01X/G101/ENG/GRM033R60J104KE19-01.pdf
footprint MURATA_CAP_CER_0201
pins: 1, 2
text: 0201 100nF ±10% 6V3

## MURATA_CAP_CER_0201_6V3_470NF_GRM033R60J474KE90D
designator C?, comment GRM033R60J474KE90D
0.47 µF ±10% 6.3V Ceramic Capacitor X5R 0201 (0603 Metric); Manufacturer: Murata Electronics; Manufacturer Part Number: GRM033R60J474KE90D; Distributor Link: https://www.digikey.com/en/products/detail/murata-electronics/GRM033R60J104KE19D/702433; LCSC: *; Rating: *; ComponentLink1Description: Digikey; ComponentLink1URL: https://www.digikey.com/en/products/detail/murata-electronics/GRM033R60J474KE90D/5027494; ComponentLink2Description: Datasheet; ComponentLink2URL: https://search.murata.co.jp/Ceramy/image/img/A01X/G101/ENG/GRM033R60J474KE90-01.pdf
footprint MURATA_CAP_CER_0201
pins: 1, 2
text: 0201 470nF ±10% 6V3

## MURATA_CAP_CER_0402_6V3_4U7F_GRM155R60J475ME47D
designator C?, comment GRM155R60J475ME47D
4.7 µF ±20% 6.3V Ceramic Capacitor X5R 0402 (1005 Metric); Manufacturer: Murata Electronics; Manufacturer Part Number: GRM155R60J475ME47D; Distributor Link: https://www.digikey.com/en/products/detail/murata-electronics/GRM155R60J475ME47D/3694656; LCSC: *; Rating: *; ComponentLink1Description: Digikey; ComponentLink1URL: https://www.digikey.com/en/products/detail/murata-electronics/GRM155R60J475ME47D/3694656; ComponentLink2Description: Datasheet; ComponentLink2URL: https://search.murata.co.jp/Ceramy/image/img/A01X/G101/ENG/GRM155R60J475ME47-01.pdf
footprint MURATA_CAP_CER_0402
pins: 1, 2
text: 0402 4u7F ±20% 6V3

## MURATA_CAP_CER_0402_6V3_470NF_GRM155R60J474KE19D
designator C?, comment GRM155R60J474KE19D
0.47 µF ±10% 6.3V Ceramic Capacitor X5R 0402 (1005 Metric); Manufacturer: Murata Electronics; Manufacturer Part Number: GRM155R60J474KE19D; Distributor Link: https://www.digikey.com/en/products/detail/murata-electronics/GRM155R60J474KE19D/702530; LCSC: *; Rating: *; ComponentLink1Description: Digikey; ComponentLink1URL: https://www.digikey.com/en/products/detail/murata-electronics/GRM155R60J474KE19D/702530; ComponentLink2Description: Datasheet; ComponentLink2URL: https://search.murata.co.jp/Ceramy/image/img/A01X/G101/ENG/GRM155R60J474KE19-01.pdf
footprint MURATA_CAP_CER_0402
pins: 1, 2
text: 0402 470nF ±10% 6V3

## MURATA_CAP_CER_0402_50V_100NF_GCM155R71H104KE02J
designator C?, comment GCM155R71H104KE02J
0.1 µF ±10% 50V Ceramic Capacitor X7R 0402 (1005 Metric); Manufacturer: Murata Electronics; Manufacturer Part Number: GCM155R71H104KE02J; Distributor Link: https://www.digikey.com/en/products/detail/murata-electronics/GCM155R71H104KE02J/4903705; LCSC: *; Rating: *; ComponentLink1Description: Digikey; ComponentLink1URL: https://www.digikey.com/en/products/detail/murata-electronics/GCM155R71H104KE02J/4903705; ComponentLink2Description: Datasheet; ComponentLink2URL: https://search.murata.co.jp/Ceramy/image/img/A01X/G101/ENG/GCM155R71H104KE02-01.pdf
footprint MURATA_CAP_CER_0402
pins: 1, 2
text: 0402 100nF ±10% 50V

## MURATA_CAP_CER_0603_6V3_10UF_GRM188R60J106ME47D
designator C?, comment GRM188R60J106ME47D
10 µF ±20% 6.3V Ceramic Capacitor X5R 0603 (1608 Metric); Manufacturer: Murata Electronics; Manufacturer Part Number: GRM188R60J106ME47D; Distributor Link: https://www.digikey.com/en/products/detail/murata-electronics/GRM188R60J476ME15D/5877410; LCSC: *; Rating: *; ComponentLink1Description: Digikey; ComponentLink1URL: https://www.digikey.com/en/products/detail/murata-electronics/GRM188R60J106ME47D/965910; ComponentLink2Description: Datasheet; ComponentLink2URL: https://search.murata.co.jp/Ceramy/image/img/A01X/G101/ENG/GRM188R60J106ME47-01.pdf
footprint MURATA_CAP_CER_0603
pins: 1, 2
text: 0603 10uF ±20% 6V3

## MURATA_CAP_CER_0603_6V3_47UF_GRM188R60J476ME15D
designator C?, comment GRM188R60J476ME15D
47 µF ±20% 6.3V Ceramic Capacitor X5R 0603 (1608 Metric); Manufacturer: Murata Electronics; Manufacturer Part Number: GRM188R60J476ME15D; Distributor Link: https://www.digikey.com/en/products/detail/murata-electronics/GRM188R60J476ME15D/5877410; LCSC: *; Rating: *; ComponentLink1Description: Digikey; ComponentLink1URL: https://www.digikey.com/en/products/detail/murata-electronics/GRM188R60J476ME15D/5877410; ComponentLink2Description: Datasheet; ComponentLink2URL: https://search.murata.co.jp/Ceramy/image/img/A01X/G101/ENG/GRM188R60J476ME15-01.pdf
footprint MURATA_CAP_CER_0603
pins: 1, 2
text: 0603 47uF ±20% 6V3

## MURATA_CAP_CER_0603_16V_1UF_GCM188R71C105KA64D
designator C?, comment GCM188R71C105KA64D
1 µF ±10% 16V Ceramic Capacitor X7R 0603 (1608 Metric); Manufacturer: Murata Electronics; Manufacturer Part Number: GCM188R71C105KA64D; Distributor Link: https://www.digikey.ca/en/products/detail/murata-electronics/GCM188R71C105KA64D/1979250; LCSC: *; Rating: *; ComponentLink1Description: Digikey; ComponentLink1URL: https://www.digikey.ca/en/products/detail/murata-electronics/GCM188R71C105KA64D/1979250; ComponentLink2Description: Datasheet; ComponentLink2URL: https://pim.murata.com/asset/pim4/ceramicCapacitorSMD/GCM188R71C105KA64-04A-EN_PDF_CERAMICCAPACITORSMD
footprint MURATA_CAP_CER_0603
pins: 1, 2
text: 0603 1uF ±10% 16V

## MURATA_CAP_CER_0603_50V_1NF_GRM1885C1H102JA01D
designator C?, comment GRM1885C1H102JA01D
1000 pF ±5% 50V Ceramic Capacitor C0G, NP0 0603 (1608 Metric); Manufacturer: Murata Electronics; Manufacturer Part Number: GRM1885C1H102JA01D; Distributor Link: *; LCSC: *; Rating: *; ComponentLink1Description: Digikey; ComponentLink1URL: https://www.digikey.ca/en/products/detail/murata-electronics/GRM1885C1H103JA01D/4421555; ComponentLink2Description: Datasheet; ComponentLink2URL: https://mm.digikey.com/Volume0/opasdata/d220001/medias/docus/8942/Chip_Multilayer_CAT2021_MLCC.pdf
footprint MURATA_CAP_CER_0603
pins: 1, 2
text: 0603 1nF ±5% 50V

## MURATA_CAP_CER_0603_50V_1UF_GRT188R61H105KE13D
designator C?, comment GRT188R61H105KE13D
1 µF ±10% 50V Ceramic Capacitor X5R 0603 (1608 Metric); Manufacturer: Murata Electronics; Manufacturer Part Number: GRT188R61H105KE13D; Distributor Link: *; LCSC: *; Rating: *; ComponentLink1Description: Digikey; ComponentLink1URL: https://www.digikey.ca/en/products/detail/murata-electronics/GRT188R61H105KE13D/5416752; ComponentLink2Description: Datasheet; ComponentLink2URL: https://pim.murata.com/asset/pim4/ceramicCapacitorSMD/GRT188R61H105KE13-01A-EN_PDF_CERAMICCAPACITORSMD
footprint MURATA_CAP_CER_0603
pins: 1, 2
text: 0603 1uF ±10% 50V

## MURATA_CAP_CER_0603_50V_2N2F_GCM188R71H222KA37D
designator C?, comment GCM188R71H222KA37D
2200 pF ±10% 50V Ceramic Capacitor X7R 0603 (1608 Metric); Manufacturer: Murata Electronics; Manufacturer Part Number: GCM188R71H222KA37D; Distributor Link: *; LCSC: *; Rating: *; ComponentLink1Description: Digikey; ComponentLink1URL: https://www.digikey.ca/en/products/detail/murata-electronics/GCM188R71H222KA37D/1765179; ComponentLink2Description: Datasheet; ComponentLink2URL: https://pim.murata.com/asset/pim4/ceramicCapacitorSMD/GCM188R71H222KA37-01C-EN_PDF_CERAMICCAPACITORSMD
footprint MURATA_CAP_CER_0603
pins: 1, 2
text: 0603 2n2F ±10% 50V

## MURATA_CAP_CER_0603_50V_2U2F_GRT188R61H225KE13D
designator C?, comment GRT188R61H225KE13D
2.2 µF ±10% 50V Ceramic Capacitor X5R 0603 (1608 Metric); Manufacturer: Murata Electronics; Manufacturer Part Number: GRT188R61H225KE13D; Distributor Link: *; LCSC: *; Rating: *; ComponentLink1Description: Digikey; ComponentLink1URL: https://www.digikey.ca/en/products/detail/murata-electronics/GRT188R61H225KE13D/5416754; ComponentLink2Description: Datasheet; ComponentLink2URL: https://pim.murata.com/asset/pim4/ceramicCapacitorSMD/GRT188R61H225KE13-01A-EN_PDF_CERAMICCAPACITORSMD
footprint MURATA_CAP_CER_0603
pins: 1, 2
text: 0603 2u2F ±10% 50V

## MURATA_CAP_CER_0603_50V_10NF_GRM1885C1H103JA01D
designator C?, comment GRM1885C1H103JA01D
10000 pF ±5% 50V Ceramic Capacitor C0G, NP0 0603 (1608 Metric); Manufacturer: Murata Electronics; Manufacturer Part Number: GRM1885C1H103JA01D; Distributor Link: *; LCSC: *; Rating: *; ComponentLink1Description: Digikey; ComponentLink1URL: https://www.digikey.ca/en/products/detail/murata-electronics/GRM1885C1H103JA01D/4421555; ComponentLink2Description: Datasheet; ComponentLink2URL: https://mm.digikey.com/Volume0/opasdata/d220001/medias/docus/8942/Chip_Multilayer_CAT2021_MLCC.pdf
footprint MURATA_CAP_CER_0603
pins: 1, 2
text: 0603 10nF ±5% 50V

## MURATA_CAP_CER_0603_50V_10PF_GRM1885C1H100JA01D
designator C?, comment GRM1885C1H100JA01D
10 pF ±5% 50V Ceramic Capacitor C0G, NP0 0603 (1608 Metric); Manufacturer: Murata Electronics; Manufacturer Part Number: GRM1885C1H100JA01D; Distributor Link: *; LCSC: *; Rating: *; ComponentLink1Description: Digikey; ComponentLink1URL: https://www.digikey.ca/en/products/detail/murata-electronics/GRM1885C1H100JA01D/586930; ComponentLink2Description: Datasheet; ComponentLink2URL: https://mm.digikey.com/Volume0/opasdata/d220001/medias/docus/8942/Chip_Multilayer_CAT2021_MLCC.pdf
footprint MURATA_CAP_CER_0603
pins: 1, 2
text: 0603 10pF ±5% 50V

## MURATA_CAP_CER_0603_50V_33NF_GCM188R71H333KA55D
designator C?, comment GCM188R71H333KA55D
0.033 µF ±10% 50V Ceramic Capacitor X7R 0603 (1608 Metric); Manufacturer: Murata Electronics; Manufacturer Part Number: GCM188R71H333KA55D; Distributor Link: *; LCSC: *; Rating: *; ComponentLink1Description: Digikey; ComponentLink1URL: https://www.digikey.ca/en/products/detail/murata-electronics/GCM188R71H333KA55D/2591951; ComponentLink2Description: Datasheet; ComponentLink2URL: https://pim.murata.com/asset/pim4/ceramicCapacitorSMD/GCM188R71H333KA55-01A-EN_PDF_CERAMICCAPACITORSMD
footprint MURATA_CAP_CER_0603
pins: 1, 2
text: 0603 33nF ±10% 50V

## MURATA_CAP_CER_0603_50V_100NF_GCM188R71H104KA57D
designator C?, comment GCM188R71H104KA57D
0.1 µF ±10% 50V Ceramic Capacitor X7R 0603 (1608 Metric); Manufacturer: Murata Electronics; Manufacturer Part Number: GCM188R71H104KA57D; Distributor Link: *; LCSC: *; Rating: *; ComponentLink1Description: Digikey; ComponentLink1URL: https://www.digikey.ca/en/products/detail/murata-electronics/GCM188R71H104KA57D/1641653; ComponentLink2Description: Datasheet; ComponentLink2URL: https://pim.murata.com/asset/pim4/ceramicCapacitorSMD/GCM188R71H104KA57-01A-EN_PDF_CERAMICCAPACITORSMD
footprint MURATA_CAP_CER_0603
pins: 1, 2
text: 0603 100nF ±10% 50V

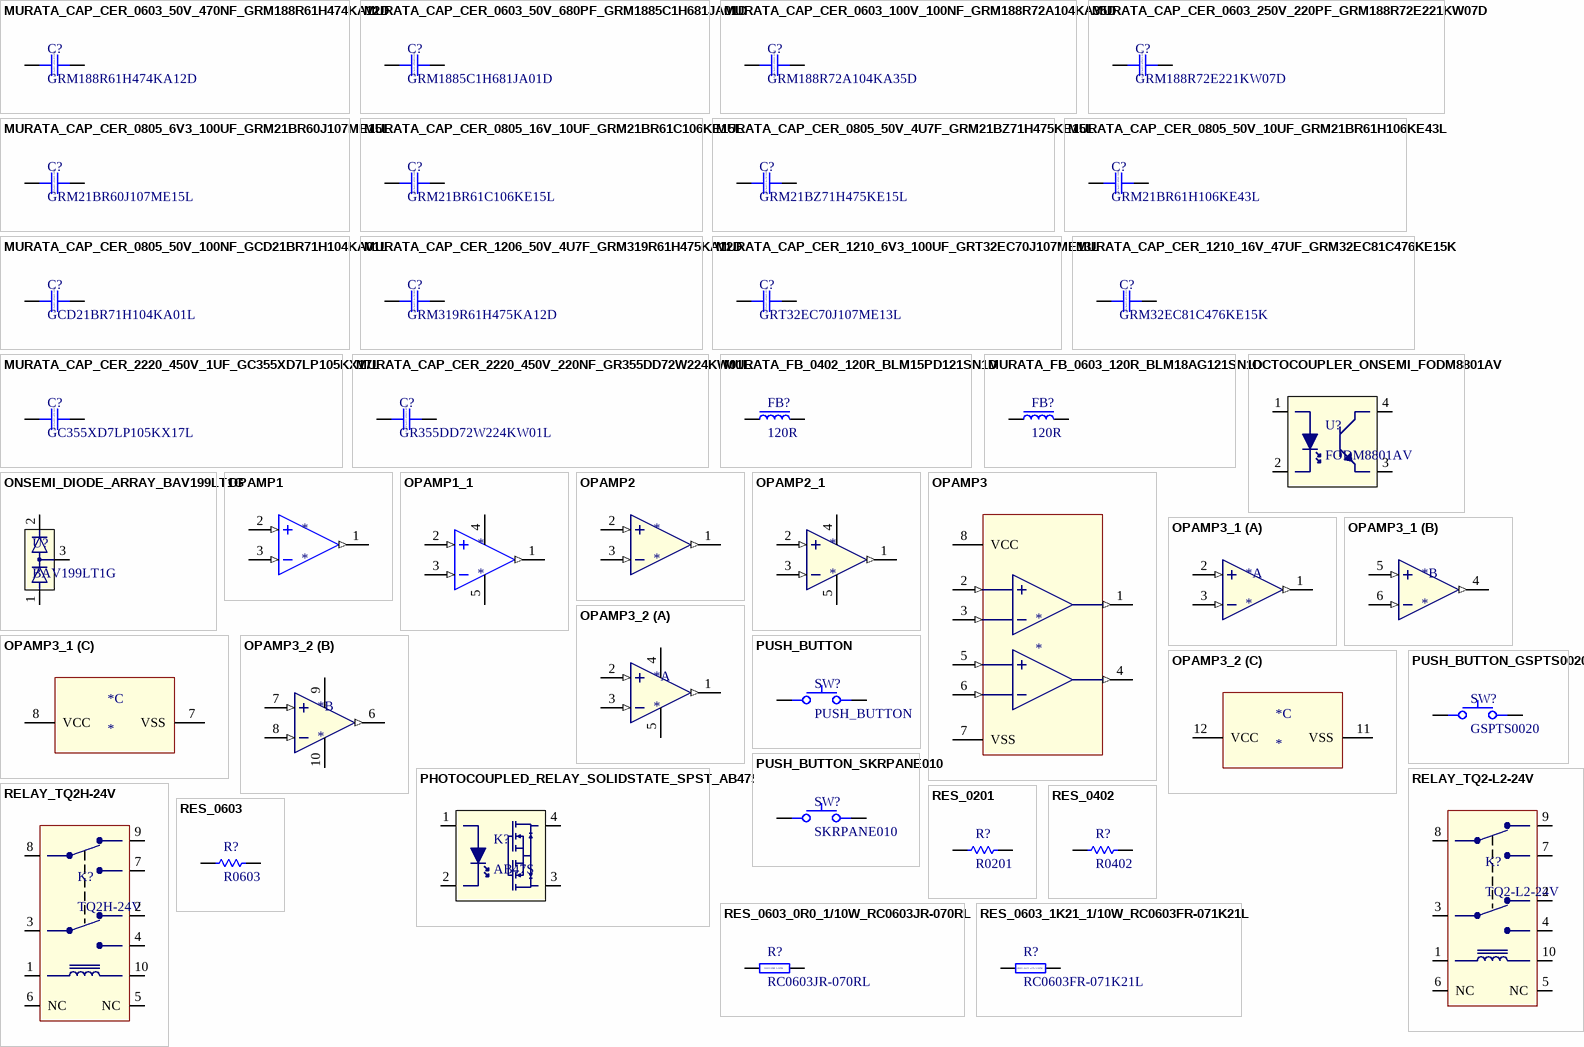
[diagram p3: symbols MURATA_CAP_CER_0603_50V_470NF_GRM188R61H474KA12D to RES_0603_1K21_1/10W_RC0603FR-071K21L]

## MURATA_CAP_CER_0603_50V_470NF_GRM188R61H474KA12D
designator C?, comment GRM188R61H474KA12D
0.47 µF ±10% 50V Ceramic Capacitor X5R 0603 (1608 Metric); Manufacturer: Murata Electronics; Manufacturer Part Number: GRM188R61H474KA12D; Distributor Link: *; LCSC: *; Rating: *; ComponentLink1Description: Digikey; ComponentLink1URL: https://www.digikey.ca/en/products/detail/murata-electronics/GRM188R61H474KA12D/4905366; ComponentLink2Description: Datasheet; ComponentLink2URL: https://mm.digikey.com/Volume0/opasdata/d220001/medias/docus/8942/490_Chip_Multilayer_CAT2021_MLCC.pdf
footprint MURATA_CAP_CER_0603
pins: 1, 2
text: 0603 470nF ±10% 50V

## MURATA_CAP_CER_0603_50V_680PF_GRM1885C1H681JA01D
designator C?, comment GRM1885C1H681JA01D
680 pF ±5% 50V Ceramic Capacitor C0G, NP0 0603 (1608 Metric); Manufacturer: Murata Electronics; Manufacturer Part Number: GRM1885C1H681JA01D; Distributor Link: *; LCSC: *; Rating: *; ComponentLink1Description: Digikey; ComponentLink1URL: https://www.digikey.ca/en/products/detail/murata-electronics/GRM1885C1H681JA01D/586952; ComponentLink2Description: Datasheet; ComponentLink2URL: https://mm.digikey.com/Volume0/opasdata/d220001/medias/docus/8942/Chip_Multilayer_CAT2021_MLCC.pdf
footprint MURATA_CAP_CER_0603
pins: 1, 2
text: 0603 680pF ±5% 50V

## MURATA_CAP_CER_0603_100V_100NF_GRM188R72A104KA35D
designator C?, comment GRM188R72A104KA35D
0.1 µF ±10% 100V Ceramic Capacitor X7R 0603 (1608 Metric); Manufacturer: Murata Electronics; Manufacturer Part Number: *; Distributor Link: *; LCSC: *; Rating: *; ComponentLink1Description: Digikey; ComponentLink1URL: https://www.digikey.ca/en/products/detail/murata-electronics/GRM188R72A104KA35D/702549; ComponentLink2Description: Datasheet; ComponentLink2URL: https://mm.digikey.com/Volume0/opasdata/d220001/medias/docus/8942/Chip_Multilayer_CAT2021_MLCC.pdf
footprint MURATA_CAP_CER_0603
pins: 1, 2
text: 0603 100nF ±10% 100V

## MURATA_CAP_CER_0603_250V_220PF_GRM188R72E221KW07D
designator C?, comment GRM188R72E221KW07D
220 pF ±10% 250V Ceramic Capacitor X7R 0603 (1608 Metric); Manufacturer: Murata Electronics; Manufacturer Part Number: GRM188R72E221KW07D; Distributor Link: *; LCSC: *; Rating: *; ComponentLink1Description: Digikey; ComponentLink1URL: https://www.digikey.ca/en/products/detail/murata-electronics/GRM188R72E221KW07D/789369; ComponentLink2Description: Datasheet; ComponentLink2URL: https://mm.digikey.com/Volume0/opasdata/d220001/medias/docus/8942/490_Chip_Multilayer_CAT2021_MLCC.pdf
footprint MURATA_CAP_CER_0603
pins: 1, 2
text: 0603 220pF ±10% 250V

## MURATA_CAP_CER_0805_6V3_100UF_GRM21BR60J107ME15L
designator C?, comment GRM21BR60J107ME15L
100 µF ±20% 6.3V Ceramic Capacitor X5R 0805 (2012 Metric); Manufacturer: Murata Electronics; Manufacturer Part Number: GRM21BR60J107ME15L; Distributor Link: https://www.digikey.com/en/products/detail/murata-electronics/GRM21BR60J107ME15L/6155751; LCSC: *; Rating: *; ComponentLink1Description: Digikey; ComponentLink1URL: https://www.digikey.com/en/products/detail/murata-electronics/GRM21BR60J107ME15L/6155751; ComponentLink2Description: Datasheet; ComponentLink2URL: https://search.murata.co.jp/Ceramy/image/img/A01X/G101/ENG/GRM21BR60J107ME15-01.pdf
footprint MURATA_CAP_CER_0805
pins: 1, 2
text: 0805 100uF ±20% 6V3

## MURATA_CAP_CER_0805_16V_10UF_GRM21BR61C106KE15L
designator C?, comment GRM21BR61C106KE15L
10 µF ±10% 16V Ceramic Capacitor X5R 0805 (2012 Metric); Manufacturer: Murata Electronics; Manufacturer Part Number: GRM21BR61C106KE15L; Distributor Link: https://www.digikey.ca/en/products/detail/murata-electronics/GRM21BR61C106KE15L/965900; LCSC: *; Rating: *; ComponentLink1Description: Digikey; ComponentLink1URL: https://www.digikey.ca/en/products/detail/murata-electronics/GRM21BR61C106KE15L/965900; ComponentLink2Description: Datasheet; ComponentLink2URL: https://search.murata.co.jp/Ceramy/image/img/A01X/G101/ENG/GRM21BR61C106KE15-01.pdf
footprint MURATA_CAP_CER_0805
pins: 1, 2
text: 0805 10uF ±10% 16V

## MURATA_CAP_CER_0805_50V_4U7F_GRM21BZ71H475KE15L
designator C?, comment GRM21BZ71H475KE15L
4.7 µF ±10% 50V Ceramic Capacitor X7R 0805 (2012 Metric); Manufacturer: Murata Electronics; Manufacturer Part Number: GRM21BZ71H475KE15L; Distributor Link: *; LCSC: *; Rating: *; ComponentLink1Description: Digikey; ComponentLink1URL: https://www.digikey.ca/en/products/detail/murata-electronics/GRM21BZ71H475KE15L/13904833; ComponentLink2Description: Datasheet; ComponentLink2URL: https://mm.digikey.com/Volume0/opasdata/d220001/medias/docus/8942/490_Chip_Multilayer_CAT2021_MLCC.pdf
footprint MURATA_CAP_CER_0805
pins: 1, 2
text: 0805 4u7F ±10% 50V

## MURATA_CAP_CER_0805_50V_10UF_GRM21BR61H106KE43L
designator C?, comment GRM21BR61H106KE43L
10 µF ±10% 50V Ceramic Capacitor X5R 0805 (2012 Metric); Manufacturer: Murata Electronics; Manufacturer Part Number: GRM21BR61H106KE43L; Distributor Link: *; LCSC: *; Rating: *; ComponentLink1Description: Digikey; ComponentLink1URL: https://www.digikey.com/en/products/detail/murata-electronics/GRM21BR61H106KE43L/10326316; ComponentLink2Description: Datasheet; ComponentLink2URL: https://mm.digikey.com/Volume0/opasdata/d220001/medias/docus/8942/490_Chip_Multilayer_CAT2021_MLCC.pdf
footprint MURATA_CAP_CER_0805
pins: 1, 2
text: 0805 10uF ±10% 50V

## MURATA_CAP_CER_0805_50V_100NF_GCD21BR71H104KA01L
designator C?, comment GCD21BR71H104KA01L
0.1 µF ±10% 50V Ceramic Capacitor X7R 0805 (2012 Metric); Manufacturer: Murata Electronics; Manufacturer Part Number: *; Distributor Link: *; LCSC: *; Rating: *; ComponentLink1Description: Digikey; ComponentLink1URL: https://www.digikey.ca/en/products/detail/murata-electronics/GCD21BR71H104KA01L/4421528; ComponentLink2Description: Datasheet; ComponentLink2URL: https://pim.murata.com/asset/pim4/ceramicCapacitorSMD/GCD21BR71H104KA01-01A-EN_PDF_CERAMICCAPACITORSMD
footprint MURATA_CAP_CER_0805
pins: 1, 2
text: 0805 100nF ±10% 50V

## MURATA_CAP_CER_1206_50V_4U7F_GRM319R61H475KA12D
designator C?, comment GRM319R61H475KA12D
4.7 µF ±10% 50V Ceramic Capacitor X5R 1206 (3216 Metric); Manufacturer: Murata Electronics; Manufacturer Part Number: *; Distributor Link: *; LCSC: *; Rating: *; ComponentLink1Description: Digikey; ComponentLink1URL: https://www.digikey.ca/en/products/detail/murata-electronics/GRM319R61H475KA12D/6606013; ComponentLink2Description: Datasheet; ComponentLink2URL: https://mm.digikey.com/Volume0/opasdata/d220001/medias/docus/8942/490_Chip_Multilayer_CAT2021_MLCC.pdf
footprint MURATA_CAP_CER_1206
pins: 1, 2
text: 1206 4u7F ±10% 50V

## MURATA_CAP_CER_1210_6V3_100UF_GRT32EC70J107ME13L
designator C?, comment GRT32EC70J107ME13L
100 µF ±20% 6.3V Ceramic Capacitor X7S 1210 (3225 Metric); Manufacturer: Murata Electronics; Manufacturer Part Number: GRT32EC70J107ME13L; Distributor Link: https://www.digikey.ca/en/products/detail/murata-electronics/GRT32EC70J107ME13L/13905075; LCSC: *; Rating: *; ComponentLink1Description: Digikey; ComponentLink1URL: https://www.digikey.ca/en/products/detail/murata-electronics/GRT32EC70J107ME13L/13905075; ComponentLink2Description: Datasheet; ComponentLink2URL: https://search.murata.co.jp/Ceramy/image/img/A01X/G101/ENG/GRT32EC70J107ME13-01.pdf
footprint MURATA_CAP_CER_1210
pins: 1, 2
text: 1210 100uF ±20% 6.3V

## MURATA_CAP_CER_1210_16V_47UF_GRM32EC81C476KE15K
designator C?, comment GRM32EC81C476KE15K
47 µF ±10% 16V Ceramic Capacitor X6S 1210 (3225 Metric); Manufacturer: Murata Electronics; Manufacturer Part Number: GRM32EC81C476KE15K; Distributor Link: https://www.digikey.com/en/products/detail/murata-electronics/GRM32EC81C476KE15K/7363053; LCSC: *; Rating: *; ComponentLink1Description: Digikey; ComponentLink1URL: https://www.digikey.com/en/products/detail/murata-electronics/GRM32EC81C476KE15K/7363053; ComponentLink2Description: Datasheet; ComponentLink2URL: https://search.murata.co.jp/Ceramy/image/img/A01X/G101/ENG/GRM32EC81C476KE15-01.pdf
footprint MURATA_CAP_CER_1210
pins: 1, 2
text: 1210 47uF ±10% 16V

## MURATA_CAP_CER_2220_450V_1UF_GC355XD7LP105KX17L
designator C?, comment GC355XD7LP105KX17L
1 µF ±10% 450V Ceramic Capacitor X7T 2220 (5750 Metric); Manufacturer: Murata Electronics; Manufacturer Part Number: *; Distributor Link: *; LCSC: *; Rating: *; ComponentLink1Description: Digikey; ComponentLink1URL: https://www.digikey.ca/en/products/detail/murata-electronics/GC355XD7LP105KX17L/6155793; ComponentLink2Description: Datasheet; ComponentLink2URL: https://pim.murata.com/asset/pim4/ceramicCapacitorSMD/GC355XD7LP105KX17-00B-EN_PDF_CERAMICCAPACITORSMD
footprint MURATA_CAP_CER_2220
pins: 1, 2
text: 2220 1uF ±10% 450V

## MURATA_CAP_CER_2220_450V_220NF_GR355DD72W224KW01L
designator C?, comment GR355DD72W224KW01L
0.22 µF ±10% 450V Ceramic Capacitor X7T 2220 (5750 Metric); Manufacturer: Murata Electronics; Manufacturer Part Number: *; Distributor Link: *; LCSC: *; Rating: *; ComponentLink1Description: Digikey; ComponentLink1URL: https://www.digikey.ca/en/products/detail/murata-electronics/GR355DD72W224KW01L/2712253; ComponentLink2Description: Datasheet; ComponentLink2URL: https://pim.murata.com/asset/pim4/ceramicCapacitorSMD/GR355DD72W224KW01-00B-EN_PDF_CERAMICCAPACITORSMD
footprint MURATA_CAP_CER_2220
pins: 1, 2
text: 2220 220nF ±10% 450V